# Altium schematic symbol library SCH - MCU - RENESAS - RENESAS R7FS1287XXXXXXNE 48QFN.SchLib: 1 symbol
Pins are listed as number, name and electrical type; pins without a type are passive.

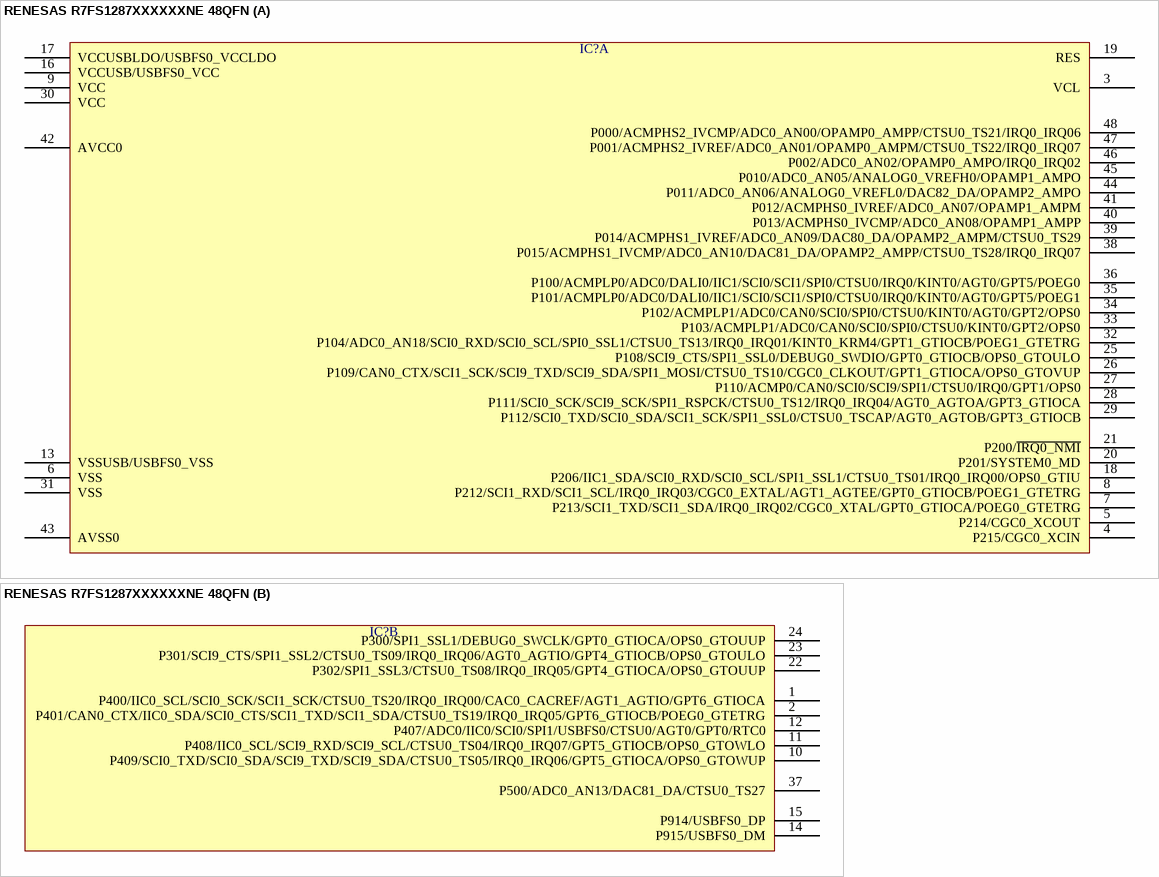
[diagram p0: symbol RENESAS R7FS1287XXXXXXNE 48QFN]

## RENESAS R7FS1287XXXXXXNE 48QFN
designator IC?  (value not drawn)
part A pins: 3 VCL, 4 P215/CGC0_XCIN, 5 P214/CGC0_XCOUT, 6 VSS, 7 P213/SCI1_TXD/SCI1_SDA/IRQ0_IRQ02/CGC0_XTAL/GPT0_GTIOCA/POEG0_GTETRG, 8 P212/SCI1_RXD/SCI1_SCL/IRQ0_IRQ03/CGC0_EXTAL/AGT1_AGTEE/GPT0_GTIOCB/POEG1_GTETRG, 9 VCC, 13 VSSUSB/USBFS0_VSS, 16 VCCUSB/USBFS0_VCC, 17 VCCUSBLDO/USBFS0_VCCLDO, 18 P206/IIC1_SDA/SCI0_RXD/SCI0_SCL/SPI1_SSL1/CTSU0_TS01/IRQ0_IRQ00/OPS0_GTIU, 19 RES, 20 P201/SYSTEM0_MD, 21 P200/~{IRQ0_NMI}, 25 P108/SCI9_CTS/SPI1_SSL0/DEBUG0_SWDIO/GPT0_GTIOCB/OPS0_GTOULO, 26 P109/CAN0_CTX/SCI1_SCK/SCI9_TXD/SCI9_SDA/SPI1_MOSI/CTSU0_TS10/CGC0_CLKOUT/GPT1_GTIOCA/OPS0_GTOVUP, 27 P110/ACMP0/CAN0/SCI0/SCI9/SPI1/CTSU0/IRQ0/GPT1/OPS0, 28 P111/SCI0_SCK/SCI9_SCK/SPI1_RSPCK/CTSU0_TS12/IRQ0_IRQ04/AGT0_AGTOA/GPT3_GTIOCA, 29 P112/SCI0_TXD/SCI0_SDA/SCI1_SCK/SPI1_SSL0/CTSU0_TSCAP/AGT0_AGTOB/GPT3_GTIOCB, 30 VCC, 31 VSS, 32 P104/ADC0_AN18/SCI0_RXD/SCI0_SCL/SPI0_SSL1/CTSU0_TS13/IRQ0_IRQ01/KINT0_KRM4/GPT1_GTIOCB/POEG1_GTETRG, 33 P103/ACMPLP1/ADC0/CAN0/SCI0/SPI0/CTSU0/KINT0/GPT2/OPS0, 34 P102/ACMPLP1/ADC0/CAN0/SCI0/SPI0/CTSU0/KINT0/AGT0/GPT2/OPS0, 35 P101/ACMPLP0/ADC0/DALI0/IIC1/SCI0/SCI1/SPI0/CTSU0/IRQ0/KINT0/AGT0/GPT5/POEG1, 36 P100/ACMPLP0/ADC0/DALI0/IIC1/SCI0/SCI1/SPI0/CTSU0/IRQ0/KINT0/AGT0/GPT5/POEG0, 38 P015/ACMPHS1_IVCMP/ADC0_AN10/DAC81_DA/OPAMP2_AMPP/CTSU0_TS28/IRQ0_IRQ07, 39 P014/ACMPHS1_IVREF/ADC0_AN09/DAC80_DA/OPAMP2_AMPM/CTSU0_TS29, 40 P013/ACMPHS0_IVCMP/ADC0_AN08/OPAMP1_AMPP, 41 P012/ACMPHS0_IVREF/ADC0_AN07/OPAMP1_AMPM, 42 AVCC0, 43 AVSS0, 44 P011/ADC0_AN06/ANALOG0_VREFL0/DAC82_DA/OPAMP2_AMPO, 45 P010/ADC0_AN05/ANALOG0_VREFH0/OPAMP1_AMPO, 46 P002/ADC0_AN02/OPAMP0_AMPO/IRQ0_IRQ02, 47 P001/ACMPHS2_IVREF/ADC0_AN01/OPAMP0_AMPM/CTSU0_TS22/IRQ0_IRQ07, 48 P000/ACMPHS2_IVCMP/ADC0_AN00/OPAMP0_AMPP/CTSU0_TS21/IRQ0_IRQ06
part B pins: 1 P400/IIC0_SCL/SCI0_SCK/SCI1_SCK/CTSU0_TS20/IRQ0_IRQ00/CAC0_CACREF/AGT1_AGTIO/GPT6_GTIOCA, 2 P401/CAN0_CTX/IIC0_SDA/SCI0_CTS/SCI1_TXD/SCI1_SDA/CTSU0_TS19/IRQ0_IRQ05/GPT6_GTIOCB/POEG0_GTETRG, 10 P409/SCI0_TXD/SCI0_SDA/SCI9_TXD/SCI9_SDA/CTSU0_TS05/IRQ0_IRQ06/GPT5_GTIOCA/OPS0_GTOWUP, 11 P408/IIC0_SCL/SCI9_RXD/SCI9_SCL/CTSU0_TS04/IRQ0_IRQ07/GPT5_GTIOCB/OPS0_GTOWLO, 12 P407/ADC0/IIC0/SCI0/SPI1/USBFS0/CTSU0/AGT0/GPT0/RTC0, 14 P915/USBFS0_DM, 15 P914/USBFS0_DP, 22 P302/SPI1_SSL3/CTSU0_TS08/IRQ0_IRQ05/GPT4_GTIOCA/OPS0_GTOUUP, 23 P301/SCI9_CTS/SPI1_SSL2/CTSU0_TS09/IRQ0_IRQ06/AGT0_AGTIO/GPT4_GTIOCB/OPS0_GTOULO, 24 P300/SPI1_SSL1/DEBUG0_SWCLK/GPT0_GTIOCA/OPS0_GTOUUP, 37 P500/ADC0_AN13/DAC81_DA/CTSU0_TS27